# EAGLE library part STD020M10X1 (library con-pinheader-standard)
male standard header 2mm
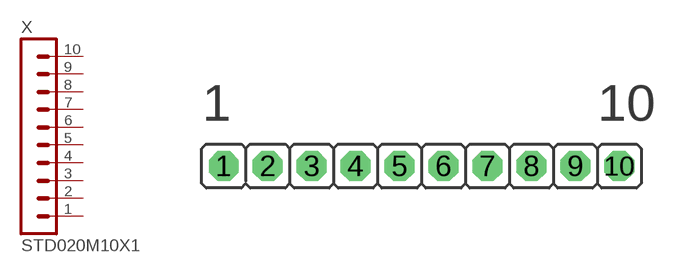
[diagram p39: symbol with the pads of STD020M10X1-2.00; footprint STD020M10X1-2.00]

Designator prefix X

## STD020M10X1-2.00MM  [STD020M10X1-2.00]
1  1  pas
2  2  pas
3  3  pas
4  4  pas
5  5  pas
6  6  pas
7  7  pas
8  8  pas
9  9  pas
10  10  pas

## Footprint STD020M10X1-2.00 (pad centres in mm)
male standard header 2mm
drill 0.85 octagon: 1 -9,0; 2 -7,0; 3 -5,0; 4 -3,0; 5 -1,0; 6 1,0; 7 3,0; 8 5,0; 9 7,0; 10 9,0